# Altium footprint library blandat.PcbLib: 22 footprints (part 1 of 2)
Each footprint in its own frame and in the unit in brackets; x right, y up, seen from the top. Pads: shape width x height; smd on the part's side, far side on the other; paste and mask are expansions set on the pad; w line width, h text height; cw(c..) or ccw(c..) is an arc to the next point about the centre after c.
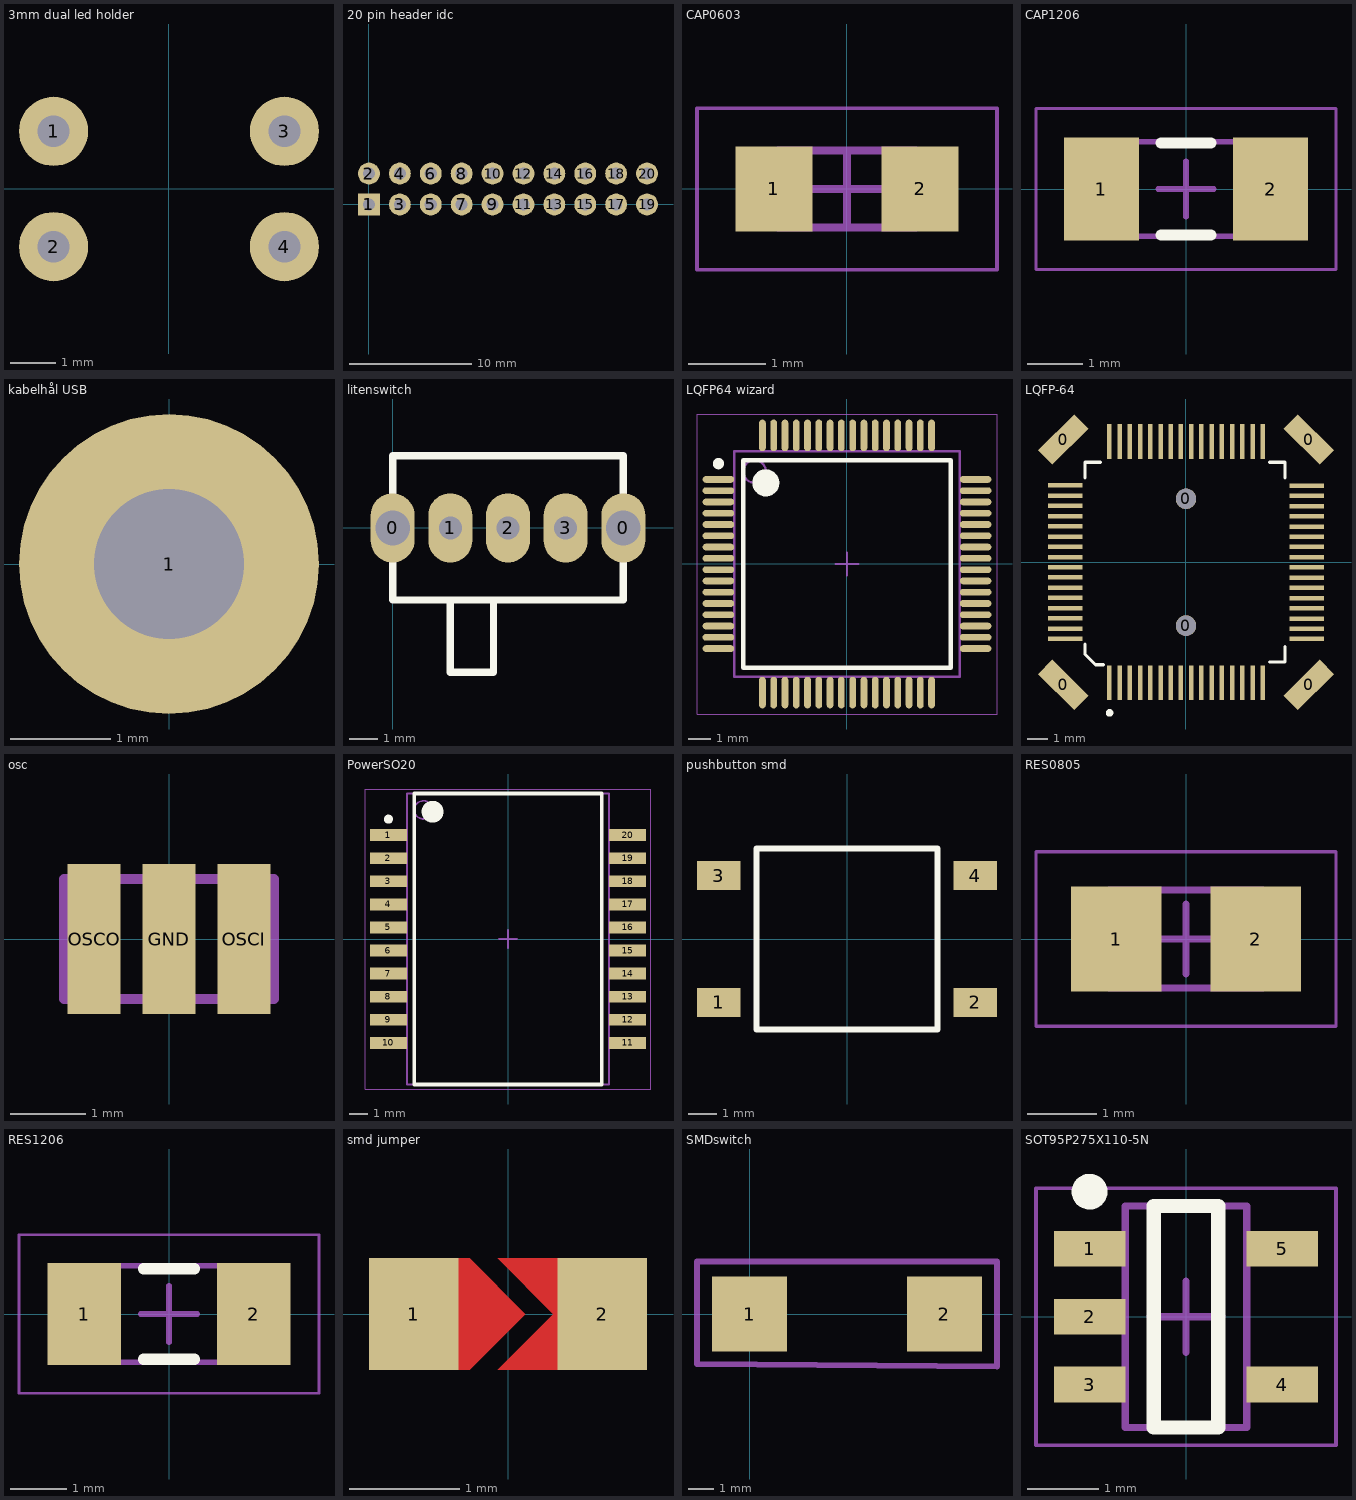
[diagram p0: the footprints below, top view; thin cyan lines are the x and y axes]

## 3mm dual led holder [mil]
pads (4):
  round 60 hole 27.56: 1(-100,50) 2(-100,-50) 3(100,50) 4(100,-50)
3D body: height 366.14, standoff 0, extent -295.27,-78.74 98.43,78.74
3D body: height 365.68, standoff 248.03, extent -472.21,-58.94 -295.04,58.94
3D body: height 157.01, standoff 39.37, extent -472.21,-58.94 -295.04,58.94

## 20 pin header idc [mm]
pads (20):
  rect 1.8x1.8 hole 1: 1(0,0)
  round 1.8 hole 1: 2(0,2.54) 3(2.54,0) 4(2.54,2.54) 5(5.08,0) 6(5.08,2.54) 7(7.62,0) 8(7.62,2.54) 9(10.16,0) 10(10.16,2.54) 11(12.7,0) 12(12.7,2.54) 13(15.24,0) 14(15.24,2.54) 15(17.78,0) 16(17.78,2.54) 17(20.32,0) 18(20.32,2.54) 19(22.86,0) 20(22.86,2.54)
3D body "idc 20pol v1.step": height 9.05, standoff -3.2, extent -5.085,-3.124 27.915,5.676

## CAP0603 [mm]
height 0.8
pads (2):
  rect 1x1.1 smd: 1(-0.95,0) 2(0.95,0)
Mechanical 13:
  lines w0.1: -0.9,-0.5 0.9,-0.5 0.9,0.5 -0.9,0.5 -0.9,-0.5
Mechanical 15:
  lines w0.05: -1.95,-1.05 1.95,-1.05 1.95,1.05 -1.95,1.05 -1.95,-1.05
  lines w0.1: -0.5,0 0.5,0 ; 0,-0.5 0,0.5
3D body "CAP0603.step": height 0.8, standoff 0, extent -0.9,-0.5 0.9,0.5

## CAP1206 [mm] "Chip Capacitor, 2-Leads, Body 3,10x1,60mm, IPC Low Density"
height 1.2
pads (2):
  rect 1.35x1.85 smd: 1(-1.525,0) 2(1.525,0)
Top Overlay:
  lines w0.2: -0.45,-0.825 0.45,-0.825 ; -0.45,0.825 0.45,0.825
Mechanical 13:
  lines w0.1: -1.6,-0.85 -1.6,0.85 1.6,0.85 1.6,-0.85 -1.6,-0.85
Mechanical 15:
  lines w0.05: -2.7,-1.45 -2.7,1.45 2.7,1.45 2.7,-1.45 -2.7,-1.45
  lines w0.1: -0.5,0 0.5,0 ; 0,-0.5 0,0.5
3D body "CAPC3116X12M.step": height 1.2, standoff 0, extent -1.6,-0.85 1.6,0.85

## kabelhål USB [mm]
pads (1):
  round 3 hole 1.5: 1(0,0)

## litenswitch [mm] "en liten switch:)"
pads (5):
  oval 1.524x2.4 hole 1.2: 0(0,0) 0(8,0)
  oval 1.524x2.4 hole 0.8: 1(2,0) 2(4,0) 3(6,0)
Top Overlay:
  lines w0.254: 2,-2.5 2,-5 3.5,-5 3.5,-2.5 ; 0,-2.5 8,-2.5 8,2.5 0,2.5 0,0 0,-2.5

## LQFP64 wizard [mm] "TSQFP, 64-Leads, Body 10,00x10,00mm, Pitch 0,50mm, IPC Medium Density"
height 1.6
pads (64):
  oval 1.4x0.3 smd: 1(-5.7,3.75) 2(-5.7,3.25) 3(-5.7,2.75) 4(-5.7,2.25) 5(-5.7,1.75) 6(-5.7,1.25) 7(-5.7,0.75) 8(-5.7,0.25) 9(-5.7,-0.25) 10(-5.7,-0.75) 11(-5.7,-1.25) 12(-5.7,-1.75) 13(-5.7,-2.25) 14(-5.7,-2.75) 15(-5.7,-3.25) 16(-5.7,-3.75) 33(5.7,-3.75) 34(5.7,-3.25) 35(5.7,-2.75) 36(5.7,-2.25) 37(5.7,-1.75) 38(5.7,-1.25) 39(5.7,-0.75) 40(5.7,-0.25) 41(5.7,0.25) 42(5.7,0.75) 43(5.7,1.25) 44(5.7,1.75) 45(5.7,2.25) 46(5.7,2.75) 47(5.7,3.25) 48(5.7,3.75)
  oval 0.3x1.4 smd: 17(-3.75,-5.7) 18(-3.25,-5.7) 19(-2.75,-5.7) 20(-2.25,-5.7) 21(-1.75,-5.7) 22(-1.25,-5.7) 23(-0.75,-5.7) 24(-0.25,-5.7) 25(0.25,-5.7) 26(0.75,-5.7) 27(1.25,-5.7) 28(1.75,-5.7) 29(2.25,-5.7) 30(2.75,-5.7) 31(3.25,-5.7) 32(3.75,-5.7) 49(3.75,5.7) 50(3.25,5.7) 51(2.75,5.7) 52(2.25,5.7) 53(1.75,5.7) 54(1.25,5.7) 55(0.75,5.7) 56(0.25,5.7) 57(-0.25,5.7) 58(-0.75,5.7) 59(-1.25,5.7) 60(-1.75,5.7) 61(-2.25,5.7) 62(-2.75,5.7) 63(-3.25,5.7) 64(-3.75,5.7)
Top Overlay:
  circle w0.6: c-3.6,3.6 r0.3
  circle w0.25: c-5.7,4.45 r0.125
  lines w0.2: -4.6,-4.6 4.6,-4.6 4.6,4.6 -4.6,4.6 -4.6,-4.6
Mechanical 13:
  circle w0.1: c-4.1,4.1 r0.5
  lines w0.1: -5,-5 5,-5 5,5 -5,5 -5,-5
Mechanical 15:
  lines w0.05: -6.65,-6.65 6.65,-6.65 6.65,6.65 -6.65,6.65 -6.65,-6.65
  lines w0.1: -0.5,0 0.5,0 ; 0,-0.5 0,0.5
3D body "TSQFP50P1200X1200X160-64N.step": height 1.6, standoff 0, extent -6,-6 6,6

## LQFP-64 [mm]
pads (70):
  rect 1x2.5 smd rot 45: 0(-6,-6) 0(6,6)
  rect 1x2.5 smd rot 135: 0(-6,6) 0(6,-6)
  round 1 hole 1 unplated: 0(0,-3.1) 0(0,3.1)
  rect 0.22x1.7 smd: 1(-3.746,-5.901) 2(-3.247,-5.901) 3(-2.747,-5.901) 4(-2.247,-5.901) 5(-1.747,-5.901) 6(-1.247,-5.901) 7(-0.747,-5.901) 8(-0.247,-5.901) 9(0.253,-5.901) 10(0.753,-5.901) 11(1.253,-5.901) 12(1.753,-5.901) 13(2.253,-5.901) 14(2.753,-5.901) 15(3.253,-5.901) 16(3.753,-5.901) 33(3.753,5.902) 34(3.253,5.902) 35(2.753,5.902) 36(2.253,5.902) 37(1.753,5.902) 38(1.253,5.902) 39(0.753,5.902) 40(0.253,5.902) 41(-0.247,5.902) 42(-0.747,5.902) 43(-1.247,5.902) 44(-1.747,5.902) 45(-2.247,5.902) 46(-2.747,5.902) 47(-3.247,5.902) 48(-3.746,5.901)
  rect 1.7x0.22 smd: 17(5.901,-3.753) 18(5.901,-3.253) 19(5.901,-2.753) 20(5.901,-2.253) 21(5.901,-1.753) 22(5.901,-1.253) 23(5.901,-0.753) 24(5.901,-0.253) 25(5.901,0.247) 26(5.901,0.747) 27(5.901,1.247) 28(5.901,1.747) 29(5.901,2.247) 30(5.901,2.747) 31(5.901,3.247) 32(5.901,3.747) 49(-5.901,3.753) 50(-5.901,3.253) 51(-5.901,2.753) 52(-5.901,2.253) 53(-5.901,1.753) 54(-5.901,1.253) 55(-5.901,0.753) 56(-5.901,0.253) 57(-5.901,-0.247) 58(-5.901,-0.747) 59(-5.901,-1.247) 60(-5.901,-1.747) 61(-5.901,-2.247) 62(-5.901,-2.746) 63(-5.901,-3.246) 64(-5.901,-3.746)
Top Overlay:
  circle w0.25: c-3.742,-7.366 r0.059
  lines w0.152: -4.938,-4 -4.938,-4.508 -4.43,-5.016 -4.049,-5.016 ; -4.938,4.128 -4.938,4.89 -4.176,4.89 ; 4.079,-4.889 4.841,-4.889 4.841,-4.127 ; 4.079,4.89 4.841,4.89 4.841,4.128

## osc [mm]
pads (3):
  rrect0% 0.7x2 smd: GND(0,0) OSCI(1,0) OSCO(-1,0)
Mechanical 8:
  lines w0.127: -1.4,-0.8 1.4,-0.8 1.4,0.8 -1.4,0.8 -1.4,-0.8

## PowerSO20 [mm] "SOP, 20-Leads, Body 15,90x11,00mm, Pitch 1,27mm, IPC Medium Density"
height 3.6
pads (20):
  rect 2.05x0.65 smd: 1(-6.575,5.715) 2(-6.575,4.445) 3(-6.575,3.175) 4(-6.575,1.905) 5(-6.575,0.635) 6(-6.575,-0.635) 7(-6.575,-1.905) 8(-6.575,-3.175) 9(-6.575,-4.445) 10(-6.575,-5.715) 11(6.575,-5.715) 12(6.575,-4.445) 13(6.575,-3.175) 14(6.575,-1.905) 15(6.575,-0.635) 16(6.575,0.635) 17(6.575,1.905) 18(6.575,3.175) 19(6.575,4.445) 20(6.575,5.715)
Top Overlay:
  circle w0.25: c-6.575,6.59 r0.125
  circle w0.6: c-4.15,7 r0.3
  lines w0.2: -5.15,-8 -5.15,8 5.15,8 5.15,-8 -5.15,-8
Mechanical 13:
  circle w0.1: c-4.65,7.1 r0.5
  lines w0.1: -5.55,-8 -5.55,8 5.55,8 5.55,-8 -5.55,-8
Mechanical 15:
  lines w0.05: -7.85,-8.25 -7.85,8.25 7.85,8.25 7.85,-8.25 -7.85,-8.25
  lines w0.1: -0.5,0 0.5,0 ; 0,-0.5 0,0.5
3D body "PowerSO20.step": height 3.6, standoff 0, extent -7.1,-8 7.1,8

## pushbutton smd [mil]
pads (4):
  rect 60x40 smd: 1(-177.17,-87.5) 2(177.17,-87.5) 3(-177.17,87.5) 4(177.17,87.5)
Top Overlay:
  lines w8: -125,-125 125,-125 125,125 -125,125 -125,-125

## RES0805 [mm]
height 0.6
pads (2):
  rect 1.3x1.5 smd: 1(-1,0) 2(1,0)
Mechanical 13:
  lines w0.1: -1.1,-0.7 1.1,-0.7 1.1,0.7 -1.1,0.7 -1.1,-0.7
Mechanical 15:
  lines w0.05: -2.15,-1.25 2.15,-1.25 2.15,1.25 -2.15,1.25 -2.15,-1.25
  lines w0.1: -0.5,0 0.5,0 ; 0,-0.5 0,0.5
3D body "Chip2PinSM127P600-8N.step": height 0.6, standoff 0, extent -1.1,-0.7 1.1,0.7

## RES1206 [mm] "Chip Resistor, 2-Leads, Body 3,10x1,60mm, IPC Low Density"
height 0.6
pads (2):
  rect 1.3x1.8 smd: 1(-1.5,0) 2(1.5,0)
Top Overlay:
  lines w0.2: -0.45,-0.8 0.45,-0.8 ; -0.45,0.8 0.45,0.8
Mechanical 13:
  lines w0.1: -1.6,-0.85 -1.6,0.85 1.6,0.85 1.6,-0.85 -1.6,-0.85
Mechanical 15:
  lines w0.05: -2.65,-1.4 -2.65,1.4 2.65,1.4 2.65,-1.4 -2.65,-1.4
  lines w0.1: -0.5,0 0.5,0 ; 0,-0.5 0,0.5
3D body "RESC3116X06M.step": height 0.6, standoff 0, extent -1.6,-0.85 1.6,0.85

## smd jumper [mil]
pads (2):
  rect 32x40 smd: 1(-33.75,0) 2(33.75,0)
Top Layer:
  region: -23.75,-20 -13.75,-20 6.25,0 -13.75,20 -23.75,20
  region: 26.25,0 16.25,0 -3.75,-20 26.25,-20
  region: 26.25,0 16.25,0 -3.75,20 26.25,20
Top Paste:
  region: -23.75,-20 -13.75,-20 6.25,0 -13.75,20 -23.75,20
  region: 26.25,0 16.25,0 -3.75,-20 26.25,-20
  region: 26.25,0 16.25,0 -3.75,20 26.25,20
Top Solder:
  region: -23.75,-24 -13.75,-24 10.25,0 -13.75,24 -23.75,24
  region: 26.25,0 12.25,0 -11.75,-24 26.25,-24
  region: 26.25,0 12.25,0 -11.75,24 26.25,24

## SMDswitch [mm]
pads (2):
  rect 3x3 smd paste+0.5: 1(0,0) 2(7.8,0)
Mechanical 1:
  lines w0.254: -2.1,-2 9.9,-2.1 9.9,2.1 -2.1,2.1 -2.1,-2

## SOT95P275X110-5N [mm] "SOT23, 5-Leads, Body 2,90x2,75mm, Pitch 0,95mm, IPC Medium Density"
height 1.1
pads (5):
  rect 1x0.5 smd: 1(-1.35,0.95) 2(-1.35,0) 3(-1.35,-0.95) 4(1.35,-0.95) 5(1.35,0.95)
Top Overlay:
  circle w0.25: c-1.35,1.75 r0.125
  lines w0.2: -0.45,-1.55 -0.45,1.55 0.45,1.55 0.45,-1.55 -0.45,-1.55
Mechanical 13:
  lines w0.1: -0.85,-1.55 0.85,-1.55 0.85,1.55 -0.85,1.55 -0.85,-1.55
Mechanical 15:
  lines w0.05: -2.1,-1.8 2.1,-1.8 2.1,1.8 -2.1,1.8 -2.1,-1.8
  lines w0.1: -0.5,0 0.5,0 ; 0,-0.5 0,0.5
3D body "SOT95P275X110-5N.step": height 1.1, standoff 0, extent -1.5,-1.55 1.5,1.55